# EAGLE library part MC33887 (library scono)
https://www.digikey.com/product-detail/en/nxp-usa-inc/MC33887APVWR2/MC33887APVWR2CT-ND/3524218
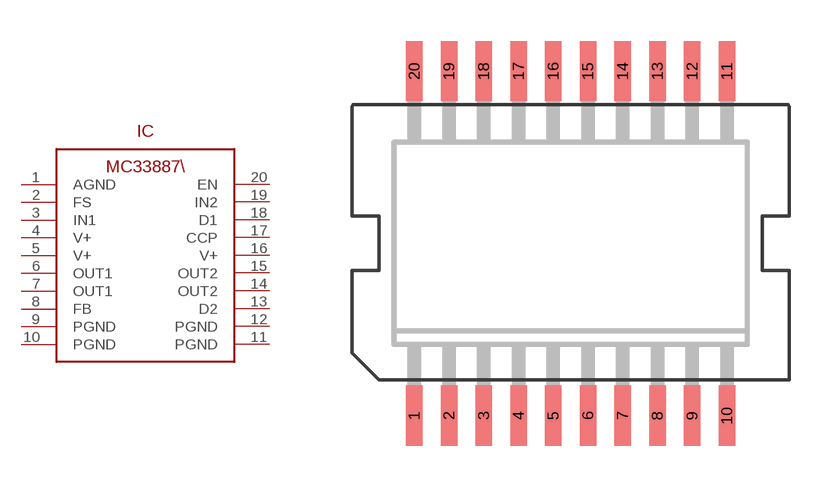
[diagram p21: symbol with the pads of MC33887; footprint MC33887]

Designator prefix IC

## MC33887  [MC33887]
1  AGND
2  FS
3  IN1
4  V+
5  V+
6  OUT1
7  OUT1
8  FB
9  PGND
10  PGND
11  PGND
12  PGND
13  D2
14  OUT2
15  OUT2
16  V+
17  CCP
18  D1
19  IN2
20  EN

## Footprint MC33887 (pad centres in mm)
SMALL OUTLINE INTEGRATED CIRCUIT
smd 0.6 x 2.2: 1 -5.715,-6.3; 2 -4.445,-6.3; 3 -3.175,-6.3; 4 -1.905,-6.3; 5 -0.635,-6.3; 6 0.635,-6.3; 7 1.905,-6.3; 8 3.175,-6.3; 9 4.445,-6.3; 10 5.715,-6.3; 11 5.715,6.3; 12 4.445,6.3; 13 3.175,6.3; 14 1.905,6.3; 15 0.635,6.3; 16 -0.635,6.3; 17 -1.905,6.3; 18 -3.175,6.3; 19 -4.445,6.3; 20 -5.715,6.3